# Altium footprint library Metal_Opera_Connectors.PcbLib: 4 footprints
Each footprint in its own frame and in the unit in brackets; x right, y up, seen from the top. Pads: shape width x height; smd on the part's side, far side on the other; paste and mask are expansions set on the pad; w line width, h text height; cw(c..) or ccw(c..) is an arc to the next point about the centre after c.
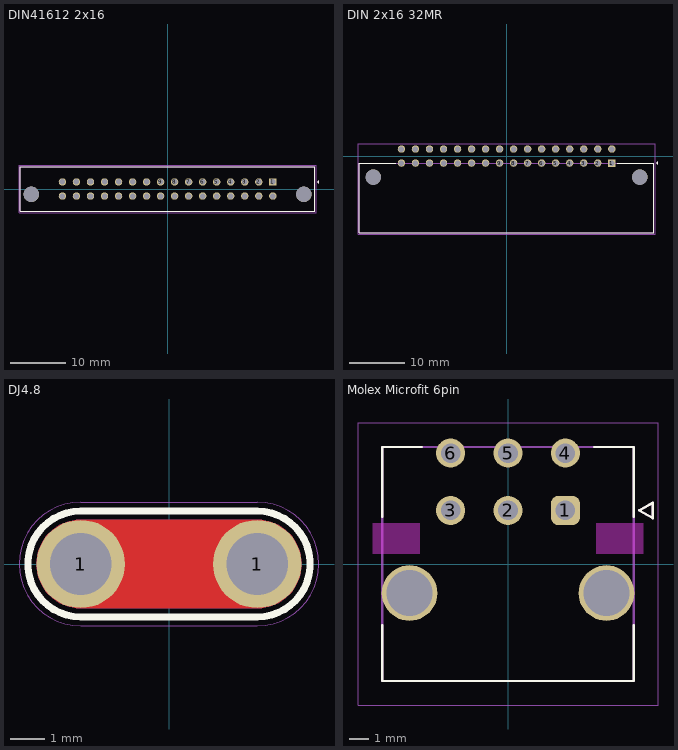
[diagram p0: the footprints below, top view; thin cyan lines are the x and y axes]

## DIN41612 2x16 [mm]
pads (34):
  rect 1.35x1.35 / inner round 1.35 / far side rect 1.35x1.35 hole 1 mask+0.102: 1(19.024,1.317)
  round 1.35 hole 1 mask+0.102: 2(16.484,1.317) 3(13.944,1.317) 4(11.404,1.317) 5(8.864,1.317) 6(6.324,1.317) 7(3.784,1.317) 8(1.244,1.317) 9(-1.296,1.317) 10(-3.836,1.317) 11(-6.376,1.317) 12(-8.916,1.317) 13(-11.456,1.317) 14(-13.996,1.317) 15(-16.536,1.317) 16(-19.076,1.317) 17(19.024,-1.223) 18(16.484,-1.223) 19(13.944,-1.223) 20(11.404,-1.223) 21(8.864,-1.223) 22(6.324,-1.223) 23(3.784,-1.223) 24(1.244,-1.223) 25(-1.296,-1.223) 26(-3.836,-1.223) 27(-6.376,-1.223) 28(-8.916,-1.223) 29(-11.456,-1.223) 30(-13.996,-1.223) 31(-16.536,-1.223) 32(-19.076,-1.223)
  round 2.79 hole 2.79 unplated mask+0: ""(-24.706,-0.923) ""(24.654,-0.923)
Top Overlay:
  circle w0.2: c27.294,1.317 r0.1
  lines w0.127: -26.696,-3.983 -26.696,4.077 26.644,4.077 26.644,-3.983 -26.696,-3.983
Mechanical 13:
  circle w0.2: c27.294,1.317 r0.1
  lines w0.127: -26.696,-3.983 -26.696,4.077 26.644,4.077 26.644,-3.983 ; -26.696,-3.983 26.644,-3.983 ; -26.696,-3.983 26.644,-3.983
Mechanical 15:
  lines w0.05: -26.946,-4.233 -26.946,4.327 26.894,4.327 26.894,-4.233 -26.946,-4.233
3D body "step_temp.STEP": height 13, standoff -3.07, extent -26.634,-4.066 26.581,3.984

## DIN 2x16 32MR [mm]
pads (34):
  rect 1.35x1.35 / inner round 1.35 / far side rect 1.35x1.35 hole 1: 1(19.05,-1.27)
  round 1.35 hole 1: 2(16.51,-1.27) 3(13.97,-1.27) 4(11.43,-1.27) 5(8.89,-1.27) 6(6.35,-1.27) 7(3.81,-1.27) 8(1.27,-1.27) 9(-1.27,-1.27) 10(-3.81,-1.27) 11(-6.35,-1.27) 12(-8.89,-1.27) 13(-11.43,-1.27) 14(-13.97,-1.27) 15(-16.51,-1.27) 16(-19.05,-1.27) 17(19.05,1.27) 18(16.51,1.27) 19(13.97,1.27) 20(11.43,1.27) 21(8.89,1.27) 22(6.35,1.27) 23(3.81,1.27) 24(1.27,1.27) 25(-1.27,1.27) 26(-3.81,1.27) 27(-6.35,1.27) 28(-8.89,1.27) 29(-11.43,1.27) 30(-13.97,1.27) 31(-16.51,1.27) 32(-19.05,1.27)
  round 2.79 hole 2.79 unplated: ""(-24.13,-3.81) ""(24.13,-3.81)
Top Overlay:
  circle w0.2: c27.32,-1.27 r0.1
  lines w0.127: -20.045,-1.27 -26.67,-1.27 -26.67,-13.89 26.67,-13.89 26.67,-1.27 20.045,-1.27
Mechanical 13:
  circle w0.2: c27.32,-1.27 r0.1
  lines w0.127: -26.67,-13.89 26.67,-13.89 ; -26.67,-13.89 26.67,-13.89 ; -26.67,-13.89 -26.67,-1.27 26.67,-1.27 26.67,-13.89
Mechanical 15:
  lines w0.05: -26.92,-14.14 26.92,-14.14 26.92,2.195 -26.92,2.195 -26.92,-14.14
3D body "step_temp.STEP": height 9.6, standoff -0.6, extent -26.605,-13.843 26.605,1.665

## DJ4.8 [mil]
pads (2):
  round 100 hole 70 mask+2: 1(-100,0) 1(100,0)
Top Layer:
  region: -150,0 -150,4.92 -148.08,14.58 -144.31,23.68 -138.84,31.87 -131.87,38.84 -123.68,44.31 -114.59,48.08 -104.93,50 -100,50 100,50 104.92,50 114.58,48.08 123.68,44.31 131.87,38.84 138.84,31.87 144.31,23.68 148.08,14.59 150,4.92 150,0 150,-4.92 148.08,-14.59 144.31,-23.69 138.84,-31.88 131.87,-38.84 123.68,-44.31 114.58,-48.08 104.92,-50 100,-50 -100,-50 -104.92,-50 -114.58,-48.08 -123.68,-44.31 -131.87,-38.84 -138.84,-31.87 -144.31,-23.68 -148.08,-14.58 -150,-4.92
Bottom Layer:
  region: -150,0 -150,4.92 -148.08,14.58 -144.31,23.68 -138.84,31.87 -131.87,38.84 -123.68,44.31 -114.59,48.08 -104.93,50 -100,50 100,50 104.92,50 114.58,48.08 123.68,44.31 131.87,38.84 138.84,31.87 144.31,23.68 148.08,14.58 150,4.92 150,0 150,-4.92 148.08,-14.59 144.31,-23.69 138.84,-31.88 131.87,-38.84 123.68,-44.31 114.58,-48.08 104.92,-50 100,-50 -100,-50 -104.92,-50 -114.58,-48.08 -123.68,-44.31 -131.87,-38.84 -138.84,-31.87 -144.31,-23.68 -148.08,-14.58 -150,-4.92
Top Overlay:
  lines w8: -100,-60 cw(c-100,0) -100,60 100,60 cw(c100,0) 100,-60 -100,-60
Bottom Overlay:
  lines w8: -100,-60 cw(c-100,0) -100,60 100,60 cw(c100,0) 100,-60 -100,-60
Top Courtyard:
  lines w1: -100,-70 cw(c-100,0) -100,70 100,70 cw(c100,0) 100,-70 -100,-70
Bottom Courtyard:
  lines w1: -100,-70 cw(c-100,0) -100,70 100,70 cw(c100,0) 100,-70 -100,-70
Top Designator:
  text ".Designator" at -129.96,12.66 h26
Top Value:
  text ".Comment" at -93.14,-36 h26
3D body "ta_48m.stp": height 362.5, standoff -124.5, extent -140,-15.75 140,15.75

## Molex Microfit 6pin [mm]
pads (8):
  rrect50% 1.52x1.52 / inner round 1.52 / far side rrect50% 1.52x1.52 hole 1.02 mask+0.076: 1(3,2.8)
  round 1.52 hole 1.02 mask+0.076: 2(0,2.8) 3(-3,2.8) 4(3,5.8) 5(0,5.8) 6(-3,5.8)
  round 2.91 hole 2.41 mask+0.076: ""(-5.15,-1.52) ""(5.15,-1.52)
Top Overlay:
  lines w0.127: -6.575,-3.2 -6.575,-6.12 6.575,-6.12 6.575,-3.2 ; -6.575,2.46 -6.575,6.12 -4.5,6.12 ; 4.5,6.12 6.575,6.12 6.575,2.46 ; 6.87,2.8 7.57,2.4 7.57,3.2 6.87,2.8
Keep-Out Layer:
  region: 7.075,0.54 4.625,0.54 4.625,2.14 7.075,2.14
  region: -4.625,0.54 -7.075,0.54 -7.075,2.14 -4.625,2.14
Mechanical 13:
  lines w0.127: -6.575,-6.12 -6.575,6.12 6.575,6.12 6.575,-6.12 -6.575,-6.12 ; 6.87,2.8 7.57,2.4 7.57,3.2 6.87,2.8
Mechanical 15:
  lines w0.05: -7.845,-7.39 -7.845,7.39 7.845,7.39 7.845,-7.39 -7.845,-7.39
3D body "430450622.stp": height 9.83, standoff -2.12, extent -6.625,-6.225 6.575,6.015